# EAGLE library part ADUM242E (library KwanSystems)
Four channel isolator, two channels in each direction Two channels from side 1 to 2, two from 2 to 1. Either side may be higher than the other. The device has an output enable, but it has an internal pullup and is left disconnected in this representation.
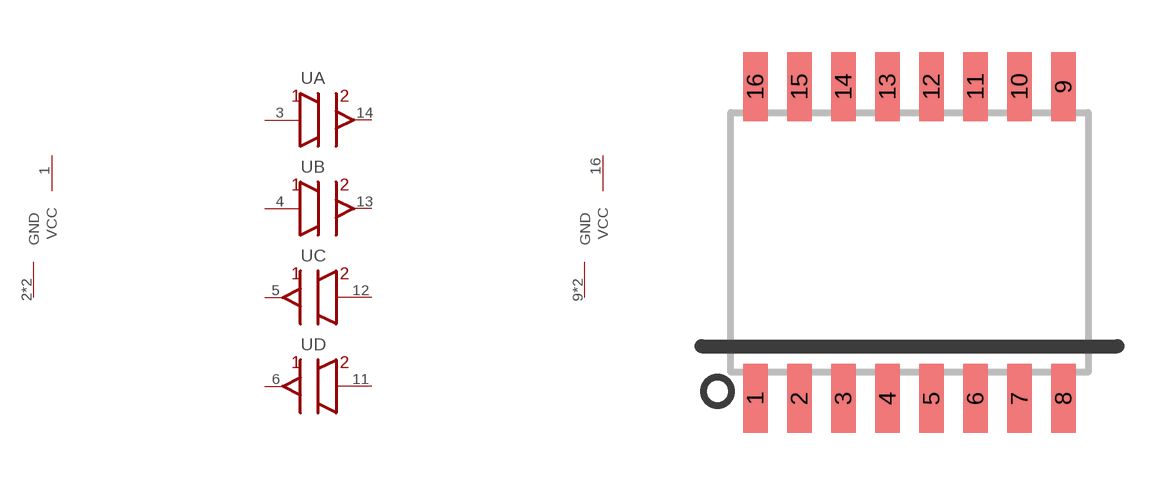
[diagram p53: symbol with the pads of 16-SOIC-W; footprint 16-SOIC-W]

Designator prefix -; gates A=ISOLATION_BUFFER B=ISOLATION_BUFFER C=ISOLATION_BACKBUFFER D=ISOLATION_BACKBUFFER PWR1=PWR PWR2=PWR

## ADUM242E  [16-SOIC-W]
1  PWR1:VCC
2  PWR1:GND
3  A:IN  in
4  B:IN  in
5  C:OUT
6  D:OUT
8  PWR1:GND
9  PWR2:GND
11  D:IN  in
12  C:IN  in
13  B:OUT
14  A:OUT
15  PWR2:GND
16  PWR2:VCC

## Footprint 16-SOIC-W (pad centres in mm)
smd 0.7 x 2: 1 -4.445,-4.5; 2 -3.175,-4.5; 3 -1.905,-4.5; 4 -0.635,-4.5; 5 0.635,-4.5; 6 1.905,-4.5; 7 3.175,-4.5; 8 4.445,-4.5; 9 4.445,4.5; 10 3.175,4.5; 11 1.905,4.5; 12 0.635,4.5; 13 -0.635,4.5; 14 -1.905,4.5; 15 -3.175,4.5; 16 -4.445,4.5